# EAGLE library part PCF8574PW-PORT_EXPAND (library MTM_untested)
REMOTE 8-BIT I/O EXPANDER FOR I2C BUS
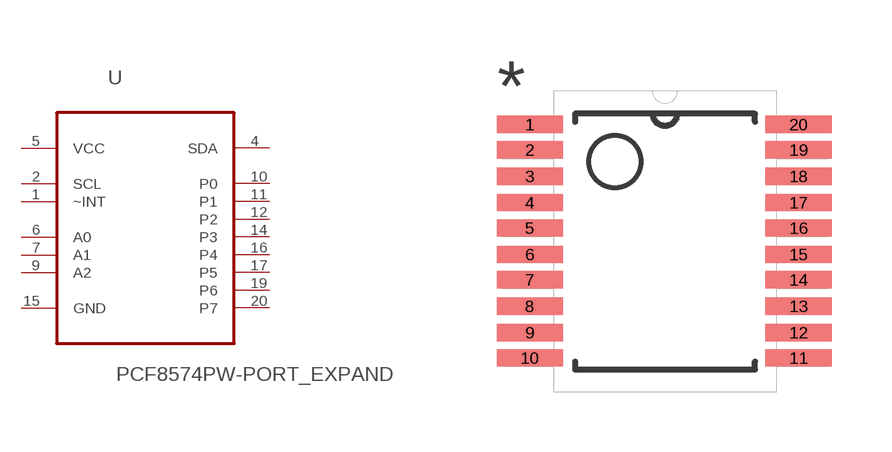
[diagram p1: symbol with the pads of TVSOP-20; footprint TVSOP-20]

Designator prefix U

## PCF8574PW-PORT_EXPANDTVSOP (OC_FARNELL: 1758146; OC_NEWARK: 75C5232; PACKAGE: SOIC-16; SUPPLIER: Texas Instruments)  [TVSOP-20]
1  ~INT  in
2  SCL  in
4  SDA
5  VCC  pwr
6  A0  in
7  A1  in
9  A2  in
10  P0
11  P1
12  P2
14  P3
15  GND  pas
16  P4
17  P5
19  P6
20  P7

## Footprint TVSOP-20 (pad centres in mm)
smd 1.651 x 0.432: 1 -3.382,2.931; 2 -3.382,2.296; 3 -3.382,1.636; 4 -3.382,0.975; 5 -3.382,0.34; 6 -3.382,-0.32; 7 -3.382,-0.955; 8 -3.382,-1.616; 9 -3.382,-2.276; 10 -3.382,-2.911; 11 3.342,-2.911; 12 3.342,-2.276; 13 3.342,-1.616; 14 3.342,-0.955; 15 3.342,-0.32; 16 3.342,0.34; 17 3.342,0.975; 18 3.342,1.636; 19 3.342,2.296; 20 3.342,2.931